# Altium schematic symbol library Converters and Regulators.SchLib: 6 symbols
Pins are listed as number, name and electrical type; pins without a type are passive.

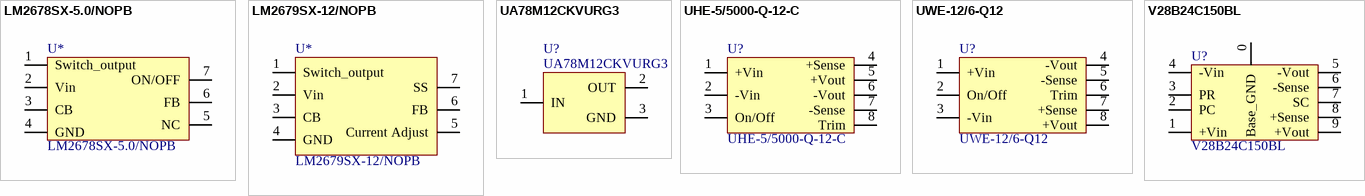
[diagram p0: symbols LM2678SX-5.0/NOPB to V28B24C150BL]

## LM2678SX-5.0/NOPB
designator U*
5V Switching Regulator, 5A
footprint LM2678SX-5.0/NOPB (5V Switching Regulator, 5A)
pins: 1 Switch_output, 2 Vin, 3 CB, 4 GND, 5 NC, 6 FB, 7 ON/OFF

## LM2679SX-12/NOPB
designator U*
12V Switching Regulator, 5A
footprint LM2679SX-12/NOPB (12V Switching Regulator, 5A)
pins: 1 Switch_output, 2 Vin, 3 CB, 4 GND, 5 Current Adjust, 6 FB, 7 SS

## UA78M12CKVURG3
designator U?
12V Regulator
footprint UA78M12CKVURG3 (12V Regulator)
pins: 1 IN, 2 OUT, 3 GND

## UHE-5/5000-Q-12-C
designator U?
5V DCDC
footprint UHE-5/5000-Q-12-C (5V DCDC)
pins: 1 +Vin, 2 -Vin, 3 On/Off, 4 +Sense, 5 +Vout, 6 -Vout, 7 -Sense, 8 Trim

## UWE-12/6-Q12
designator U?
12V DCDC
footprint UWE-12/6-Q12 (12V DCDC)
pins: 1 +Vin, 2 On/Off, 3 -Vin, 4 -Vout, 5 -Sense, 6 Trim, 7 +Sense, 8 +Vout

## V28B24C150BL
designator U?
24V DCDC
footprint V28B24C150BL (24V DCDC)
pins: 0 Base_GND, 1 +Vin, 2 PC, 3 PR, 4 -Vin, 5 -Vout, 6 -Sense, 7 SC, 8 +Sense, 9 +Vout